# Altium schematic symbol library LM636x5.SchLib: 1 symbol
Pins are listed as number, name and electrical type; pins without a type are passive.

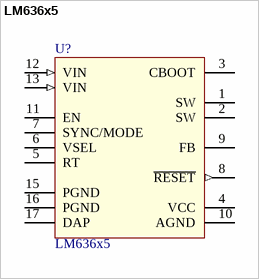
[diagram p0: symbol LM636x5]

## LM636x5
designator U?
3.5-V to 36-V, 1.5-A, and 2.5-A Automotive Step-down Voltage Converter; value: TPS54232
footprint HTSSOP-16 (HTSSOP-16 with Exposed Pad)
pins: 1 SW, 2 SW, 3 CBOOT, 4 VCC (power), 5 RT, 6 VSEL, 7 SYNC/MODE, 8 ~{RESET} (out), 9 FB, 10 AGND, 11 EN, 12 VIN (in), 13 VIN (in), 15 PGND, 16 PGND, 17 DAP